# EAGLE library part SN74LVC1G3157 (library TI)
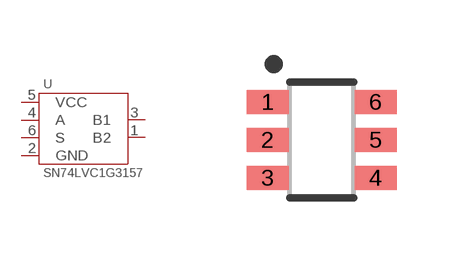
[diagram p20: symbol with the pads of SOT-23-6; footprint SOT-23-6]

Designator prefix U

## SN74LVC1G3157DBVR  [SOT-23-6]
1  B2
2  GND
3  B1
4  A
5  VCC
6  S

## Footprint SOT-23-6 (pad centres in mm)
smd 1.05 x 0.6: 1 -1.35,0.95; 2 -1.35,0; 3 -1.35,-0.95; 4 1.35,-0.95; 5 1.35,0; 6 1.35,0.95